# EAGLE library part 613016243121 (library Wuerth_Elektronik_eiCan_Pin_&_Socked_Headers_v1.3)
WR-PHD Angled Dual Socket Header, 16 Pins
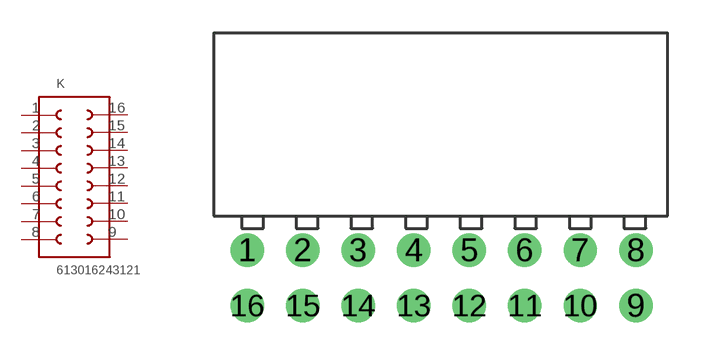
[diagram p171: symbol with the pads of 613016243121; footprint 613016243121]

Designator prefix K

## 613016243121  [613016243121]
1  1  pas
2  2  pas
3  3  pas
4  4  pas
5  5  pas
6  6  pas
7  7  pas
8  8  pas
9  9  pas
10  10  pas
11  11  pas
12  12  pas
13  13  pas
14  14  pas
15  15  pas
16  16  pas

## Footprint 613016243121 (pad centres in mm)
WR-PHD Angled Dual Socket Header, 16 Pins
drill 1.02 round: 1 -15.24,0; 2 -12.7,0; 3 -10.16,0; 4 -7.62,0; 5 -5.08,0; 6 -2.54,0; 7 0,0; 8 2.54,0; 9 2.54,-2.54; 10 0,-2.54; 11 -2.54,-2.54; 12 -5.08,-2.54; 13 -7.62,-2.54; 14 -10.16,-2.54; 15 -12.7,-2.54; 16 -15.24,-2.54